# Altium footprint library 2脚3215晶振.PcbLib: 1 footprints
Each footprint in its own frame and in the unit in brackets; x right, y up, seen from the top. Pads: shape width x height; smd on the part's side, far side on the other; paste and mask are expansions set on the pad; w line width, h text height; cw(c..) or ccw(c..) is an arc to the next point about the centre after c.
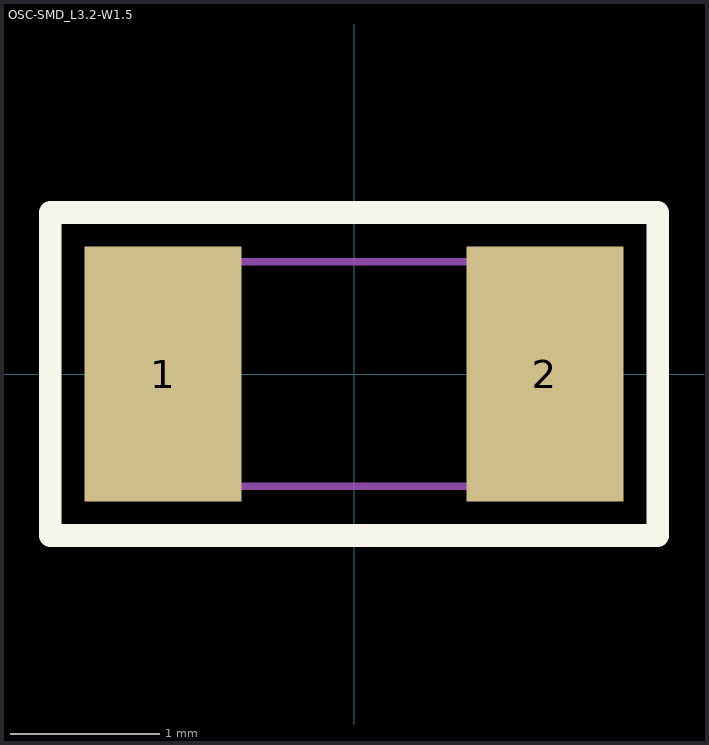
[diagram p0: the footprint, top view; thin cyan lines are the x and y axes]

## OSC-SMD_L3.2-W1.5 [mm]
pads (2):
  rect 1.05x1.7 smd: 1(-1.275,0) 2(1.275,0)
Top Overlay:
  lines w0.152: -2.029,-1.079 2.029,-1.079 2.029,1.079 -2.029,1.079 -2.029,-1.079
Mechanical 15:
  region: 0.85,-0.75 0.85,0.75 1.5,0.75 1.5,-0.75
  region: -0.85,-0.75 -0.85,0.75 -1.5,0.75 -1.5,-0.75
  region: -1.54,-0.75 -1.541,-0.726 -1.576,-0.693 -1.624,-0.693 -1.659,-0.726 -1.66,-0.75 -1.659,-0.774 -1.624,-0.807 -1.576,-0.807 -1.541,-0.774 -1.54,-0.75
  lines w0.051: -1.6,-0.75 1.6,-0.75 1.6,0.75 -1.6,0.75 -1.6,-0.75
3D body "2脚3215晶振.SLDPRT": height 0.76, standoff 0, extent -1.61,-0.751 1.59,0.75